# Altium footprint library RD.PcbLib: 32 footprints (part 1 of 2)
Each footprint in its own frame and in the unit in brackets; x right, y up, seen from the top. Pads: shape width x height; smd on the part's side, far side on the other; paste and mask are expansions set on the pad; w line width, h text height; cw(c..) or ccw(c..) is an arc to the next point about the centre after c.
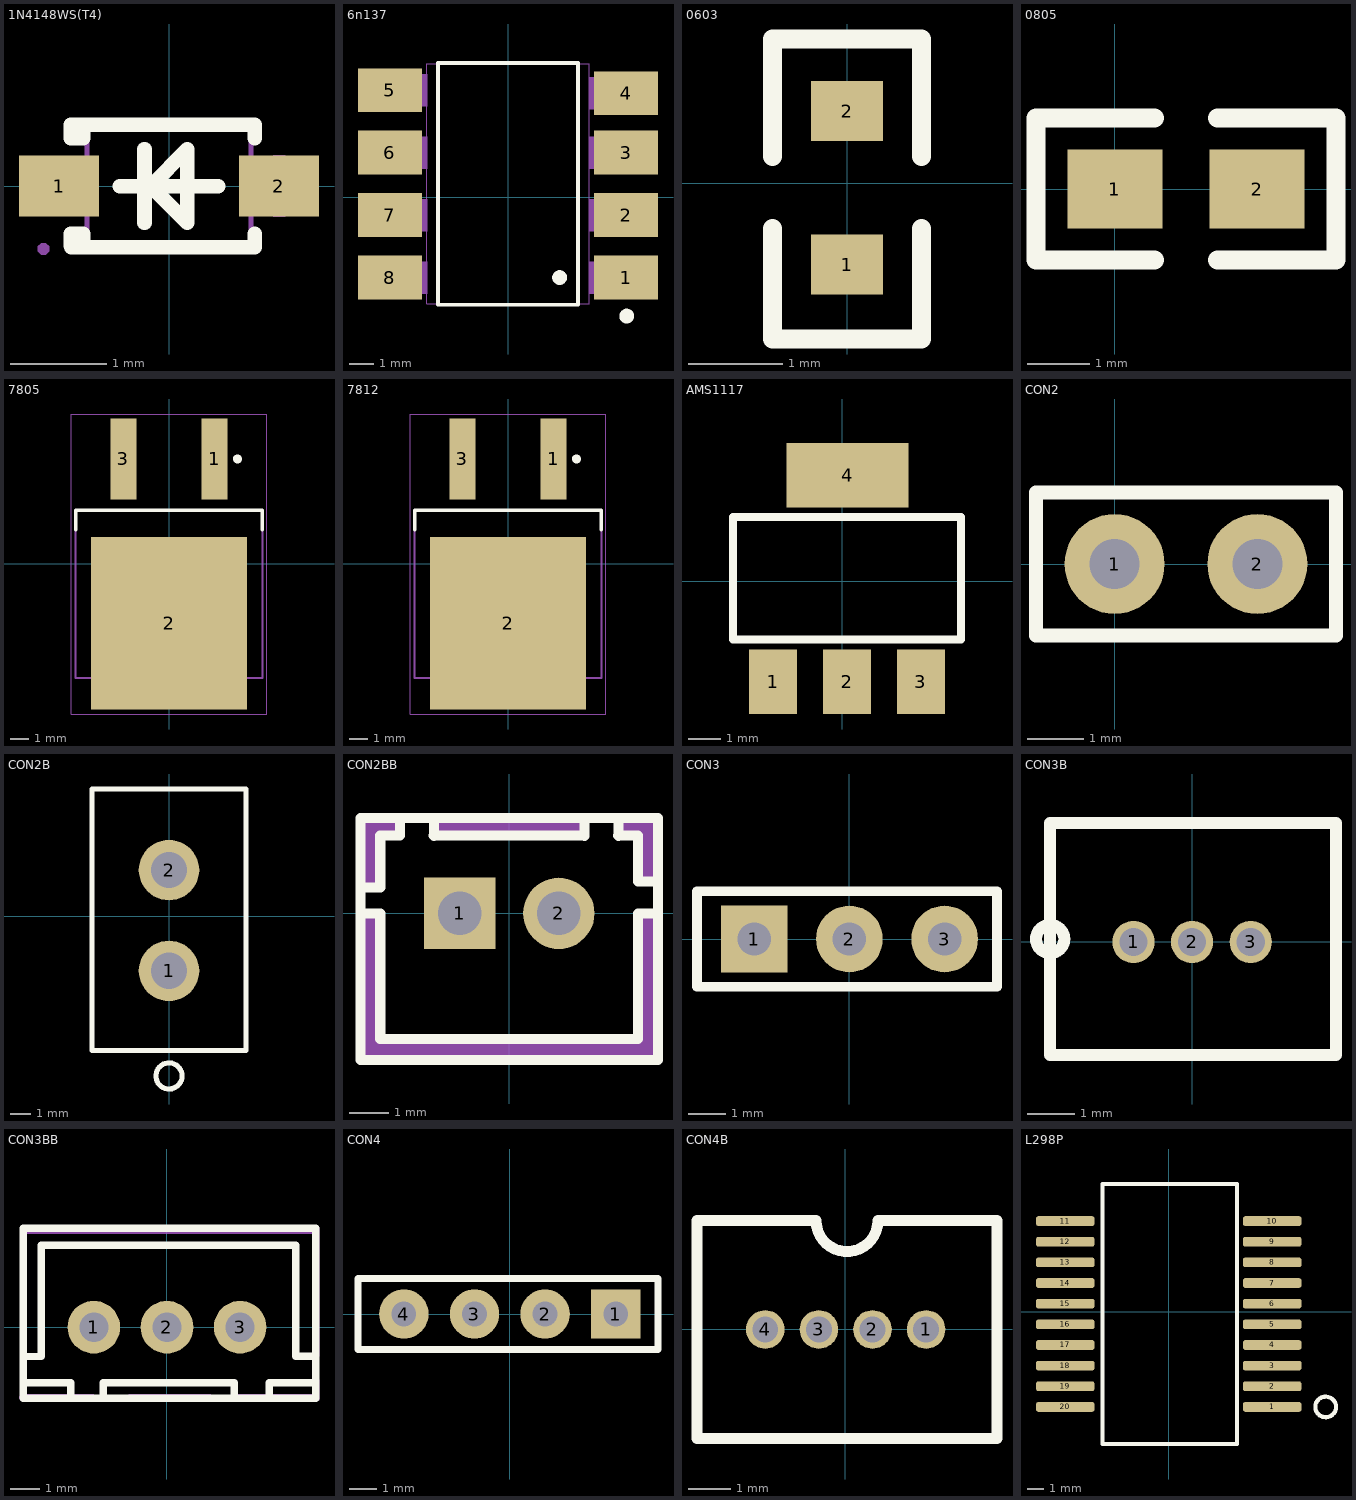
[diagram p0: the footprints below, top view; thin cyan lines are the x and y axes]

## 1N4148WS(T4) [mm]
pads (2):
  rect 0.83x0.63 smd paste+0 mask+0.05: 1(-1.14,0) 2(1.14,0)
Top Overlay:
  lines w0.152: -1.02,-0.62 -1.02,-0.495 -0.889,-0.495 -0.889,-0.595 -0.889,-0.635 0.889,-0.635 0.889,-0.495 ; -1.014,-0.635 -0.776,-0.635 ; -0.889,0.595 -0.889,0.635 ; -0.508,0 0.508,0 ; -0.254,-0.381 -0.254,0.381 ; 0.889,0.495 0.889,0.635 -0.889,0.635 ; -0.889,0.635 -0.889,0.495 -1.02,0.495 -1.02,0.635 -0.889,0.635 ; -0.191,0 0.19,0.381 0.19,-0.381 -0.191,0
Mechanical 6:
  region: 0.825,0.064 0.825,-0.064 1.079,-0.064 1.079,-0.318 1.206,-0.318 1.206,-0.064 1.46,-0.064 1.46,0.064 1.206,0.064 1.206,0.318 1.079,0.318 1.079,0.064
  region: -1.461,0.064 -1.461,-0.064 -0.826,-0.064 -0.826,0.064
Mechanical 15:
  region: 0.972,-0.16 0.972,0.16 0.812,0.16 0.812,-0.16
  region: -0.972,0.16 -0.972,-0.16 -0.812,-0.16 -0.812,0.16
  region: 1.3,0.163 1.3,-0.163 0.95,-0.163 0.95,0.163
  region: -0.95,0.163 -0.95,-0.163 -1.3,-0.163 -1.3,0.163
  region: -1.24,-0.65 -1.24,-0.625 -1.275,-0.59 -1.325,-0.59 -1.36,-0.625 -1.36,-0.65 -1.36,-0.675 -1.325,-0.71 -1.275,-0.71 -1.24,-0.675
  lines w0.051: -0.85,-0.65 0.85,-0.65 0.85,0.65 -0.85,0.65 -0.85,-0.65

## 6n137 [mm]
pads (8):
  rect 2.6x1.78 smd mask+0.102: 1(4.796,-3.258) 2(4.796,-0.718) 3(4.796,1.822) 4(4.796,4.235) 5(-4.804,4.362) 6(-4.804,1.822) 7(-4.804,-0.718) 8(-4.804,-3.258)
Top Overlay:
  circle w0.3: c4.826,-4.826 r0.15
  circle w0.3: c2.095,-3.258 r0.15
  lines w0.152: -2.855,-4.365 -2.855,5.468 2.847,5.468 2.847,-4.365 -2.855,-4.365
Mechanical 6:
  circle w0.6: c5.33,-3.258 r0.3
Mechanical 15:
  region: 5.146,-3.908 4.546,-3.908 4.546,-2.608 5.146,-2.608
  region: 4.556,-3.908 3.286,-3.908 3.286,-2.608 4.556,-2.608
  region: 5.146,-1.368 4.546,-1.368 4.546,-0.068 5.146,-0.068
  region: 4.556,-1.368 3.286,-1.368 3.286,-0.068 4.556,-0.068
  region: 5.146,1.172 4.546,1.172 4.546,2.472 5.146,2.472
  region: 4.556,1.172 3.286,1.172 3.286,2.472 4.556,2.472
  region: 5.146,3.585 4.546,3.585 4.546,4.885 5.146,4.885
  region: 4.556,3.585 3.286,3.585 3.286,4.885 4.556,4.885
  region: -4.554,-3.908 -5.154,-3.908 -5.154,-2.608 -4.554,-2.608
  region: -3.294,-3.908 -4.564,-3.908 -4.564,-2.608 -3.294,-2.608
  region: -4.554,-1.368 -5.154,-1.368 -5.154,-0.068 -4.554,-0.068
  region: -3.294,-1.368 -4.564,-1.368 -4.564,-0.068 -3.294,-0.068
  region: -4.554,1.172 -5.154,1.172 -5.154,2.472 -4.554,2.472
  region: -3.294,1.172 -4.564,1.172 -4.564,2.472 -3.294,2.472
  region: -4.554,3.712 -5.154,3.712 -5.154,5.012 -4.554,5.012
  region: -3.294,3.712 -4.564,3.712 -4.564,5.012 -3.294,5.012
  lines w0.051: -3.304,-4.328 -3.304,5.432 3.296,5.432 3.296,-4.328 -3.304,-4.328

## 0603 [mil]
height 62.99
pads (2):
  rect 30x25 smd: 1(0,-34) 2(0,30)
Top Overlay:
  lines w8: -31,-19 -31,-65 31,-65 31,-19 ; -31,11 -31,60 31,60 31,11

## 0805 [mil]
height 62.99
pads (2):
  rect 60x50 smd: 1(0,0) 2(90,0)
Top Overlay:
  lines w12: 25,-45 -50,-45 -50,45 25,45 ; 65,-45 140,-45 140,45 65,45

## 7805 [mm]
height 1.6
pads (3):
  rect 1.45x4.5 smd: 1(2.54,5.848) 3(-2.54,5.848)
  rect 8.7x9.6 smd: 2(0,-3.302)
Top Overlay:
  circle w0.25: c3.815,5.848 r0.125
  lines w0.2: -5.2,1.898 -5.2,2.998 5.2,2.998 5.2,1.898
Mechanical 13:
  lines w0.1: -5.2,-6.352 5.2,-6.352 5.2,2.998 -5.2,2.998 -5.2,-6.352
Mechanical 15:
  lines w0.05: -5.45,-8.352 5.45,-8.352 5.45,8.348 -5.45,8.348 -5.45,-8.352
  lines w0.1: -0.5,-0.002 0.5,-0.002 ; 0,-0.502 0,0.498
3D body: height 4.67, standoff 0.45, extent -5.2,-6.352 5.2,2.998

## 7812 [mm]
height 1.6
pads (3):
  rect 1.45x4.5 smd: 1(2.54,5.848) 3(-2.54,5.848)
  rect 8.7x9.6 smd: 2(0,-3.302)
Top Overlay:
  circle w0.25: c3.815,5.848 r0.125
  lines w0.2: -5.2,1.898 -5.2,2.998 5.2,2.998 5.2,1.898
Mechanical 13:
  lines w0.1: -5.2,-6.352 -5.2,2.998 5.2,2.998 5.2,-6.352 -5.2,-6.352
Mechanical 15:
  lines w0.05: -5.45,-8.352 -5.45,8.348 5.45,8.348 5.45,-8.352 -5.45,-8.352
  lines w0.1: -0.5,-0.002 0.5,-0.002 ; 0,-0.502 0,0.498
3D body: height 4.67, standoff 0.45, extent -5.2,-6.352 5.2,2.998

## AMS1117 [mil]
height 62.99
pads (4):
  rect 59x79 smd: 1(-84.88,-123.54) 2(5.67,-123.54) 3(96.22,-123.54)
  rect 150x79 smd: 4(6.34,130)
Top Overlay:
  lines w10: -134.33,-71.54 145.67,-71.54 145.67,78.46 -134.33,78.46 -134.33,-71.54

## CON2 [mil] "插针"
height 62.99
pads (2):
  round 70 hole 35: 1(0,0) 2(100,0)
Top Overlay:
  lines w10: -55,-50 -55,50 155,50 155,-50 -55,-50

## CON2B [mm]
height 1.6
pads (2):
  round 3 hole 1.8: 1(0,-2.714) 2(0,2.286)
Top Overlay:
  circle w0.254: c0,-7.921 r0.648
  lines w0.254: -3.81,-6.651 3.81,-6.651 3.81,6.303 -3.81,6.303 -3.81,2.366 -3.81,-2.714 -3.81,-6.651

## CON2BB [mm]
pads (2):
  rect 1.8x1.8 hole 1.1 paste+0 mask+0.05: 1(-1.25,0)
  round 1.8 hole 1.1 paste+0 mask+0.05: 2(1.25,0)
Top Overlay:
  lines w0.254: -3.75,-2.416 -3.75,0 -3.25,0 -3.25,-2.416 -3.25,-3.167 3.25,-3.167 3.25,-2.344 3.25,0 3.75,0 3.75,-2.344 ; -3.75,-1.603 -3.75,0.648 -3.25,0.65 -3.25,1.958 -2.75,1.958 -2.75,2.408 ; -1.9,1.95 -1.9,2.4 ; -1.9,1.958 1.9,1.958 ; 1.9,1.95 1.9,2.4 ; 2.75,1.95 2.75,2.399 ; 2.75,1.958 3.25,1.958 3.25,0.8 3.75,0.8 3.75,-1.501 ; -3.75,-3.7 -3.75,2.4 3.75,2.4 3.75,-3.7 -3.75,-3.7
Mechanical 6:
  region: 1.9,2.4 1.9,1.9 -1.9,1.9 -1.9,2.4
  region: 3.25,0 3.75,0 3.75,-3.7 -3.75,-3.7 -3.75,-0.05 -3.25,0 -3.25,-3.167 3.25,-3.167
  region: -2.75,1.9 -3.241,1.9 -3.25,1.908 -3.25,0.75 -3.75,0.75 -3.75,2.35 -2.751,2.35 -2.75,2.349
  region: 2.75,1.95 3.242,1.95 3.25,1.958 3.25,0.8 3.75,0.8 3.75,2.4 2.751,2.4 2.75,2.399
Mechanical 15:
  region: -3.69,-3.5 -3.69,-3.475 -3.725,-3.44 -3.775,-3.44 -3.81,-3.475 -3.81,-3.5 -3.81,-3.525 -3.775,-3.56 -3.725,-3.56 -3.69,-3.525 -3.69,-3.5
  region: -1.57,0.32 -0.93,0.32 -0.93,-0.32 -1.57,-0.32
  region: 0.93,0.32 1.57,0.32 1.57,-0.32 0.93,-0.32
  lines w0.051: -3.75,-3.5 3.75,-3.5 3.75,2.4 -3.75,2.4 -3.75,-3.5

## CON3 [mil] "插针"
height 62.99
pads (3):
  rect 70x70 hole 35: 1(-100,0)
  round 70 hole 35: 2(0,0) 3(100,0)
Top Overlay:
  lines w10: -160,-50 -160,50 155,50 155,-50 -160,-50

## CON3B [mm]
height 1.6
pads (3):
  round 0.9 hole 0.6: 1(-1.25,0) 2(0,0) 3(1.25,0)
Top Overlay:
  circle w0.254: c-3.028,0.064 r0.302
  lines w0.254: -3.028,-2.413 3.068,-2.413 3.068,2.54 -3.028,2.54 -3.028,-2.413

## CON3BB [mm]
pads (3):
  round 1.8 hole 1 paste+0 mask+0.05: 1(-2.5,0) 2(0,0) 3(2.5,0)
Top Overlay:
  lines w0.254: -4.918,-2.432 -4.918,3.368 ; -4.918,-1.9 -3.288,-1.9 -3.288,-2.438 ; -4.918,-1.005 -4.301,-1.005 -4.301,2.8 4.399,2.8 4.399,-1 5.093,-1 ; -4.915,-2.438 5.085,-2.438 ; -4.915,3.378 5.085,3.378 ; -2.183,-2.438 -2.183,-1.9 2.299,-1.9 2.299,-2.438 ; 3.499,-2.438 3.499,-1.9 3.862,-1.9 5.093,-1.9 ; 5.093,-2.413 5.093,3.378
Mechanical 6:
  region: 4.999,-2.3 4.999,-1.8 5.199,-1.8 5.199,-2.3
  region: 5.199,-1 5.199,3.4 4.999,3.4 4.999,-1
  region: -4.8,-1 -4.8,3.4 -5,3.4 -5,-1
  region: -5,-2.3 -5,-1.8 -4.8,-1.8 -4.8,-2.3
  region: -1.301,-2.3 -1.301,-2.5 1.499,-2.5 1.499,-2.3
  region: 5.199,-2.3 5.199,-2.5 2.299,-2.5 2.299,-2.3
  region: -5.001,-2.3 -2.501,-2.3 -2.501,-2.5 -5.001,-2.5
  region: -4.801,3.4 4.999,3.4 4.999,3.2 -4.801,3.2
Mechanical 15:
  region: -2.8,0.3 -2.2,0.3 -2.2,-0.3 -2.8,-0.3
  region: -0.3,0.3 0.3,0.3 0.3,-0.3 -0.3,-0.3
  region: 2.2,0.3 2.8,0.3 2.8,-0.3 2.2,-0.3
  region: -4.941,-2.4 -4.941,-2.375 -4.976,-2.34 -5.026,-2.34 -5.061,-2.375 -5.061,-2.4 -5.061,-2.425 -5.026,-2.46 -4.977,-2.46 -4.941,-2.425 -4.941,-2.4
  lines w0.051: -5.001,-2.4 4.999,-2.4 4.999,3.4 -5.001,3.4 -5.001,-2.4

## CON4 [mil]
height 62.99
pads (4):
  rect 70x70 hole 35: 1(150,0)
  round 70 hole 35: 2(50,0) 3(-50,0) 4(-150,0)
Top Overlay:
  lines w10: -215,-50 -215,50 210,50 210,-50 -215,-50

## CON4B [mm]
pads (4):
  round 0.9 hole 0.6: 1(1.885,0) 2(0.635,0) 3(-0.615,0) 4(-1.865,0)
Top Overlay:
  lines w0.254: -3.46,-2.54 3.54,-2.54 3.54,2.54 0.762,2.54 cw(c0.04,2.54) -0.682,2.54 -3.46,2.54 -3.46,-2.54

## L298P [mm]
height 1.6
pads (20):
  rrect50% 3.6x0.6 smd: 1(6.361,-5.842) 2(6.361,-4.572) 3(6.361,-3.302) 4(6.361,-2.032) 5(6.361,-0.762) 6(6.361,0.508) 7(6.361,1.778) 8(6.361,3.048) 9(6.361,4.318) 10(6.361,5.588) 11(-6.361,5.588) 12(-6.361,4.318) 13(-6.361,3.048) 14(-6.361,1.778) 15(-6.361,0.508) 16(-6.361,-0.762) 17(-6.361,-2.032) 18(-6.361,-3.302) 19(-6.361,-4.572) 20(-6.361,-5.842)
Top Overlay:
  circle w0.254: c9.652,-5.842 r0.635
  lines w0.254: -4.064,-8.127 -4.064,7.873 4.191,7.873 4.191,-8.127 -4.064,-8.127